# Altium integrated library Altium_WCAP-CSMH (rev22d).IntLib: 110 symbols (part 2 of 3)
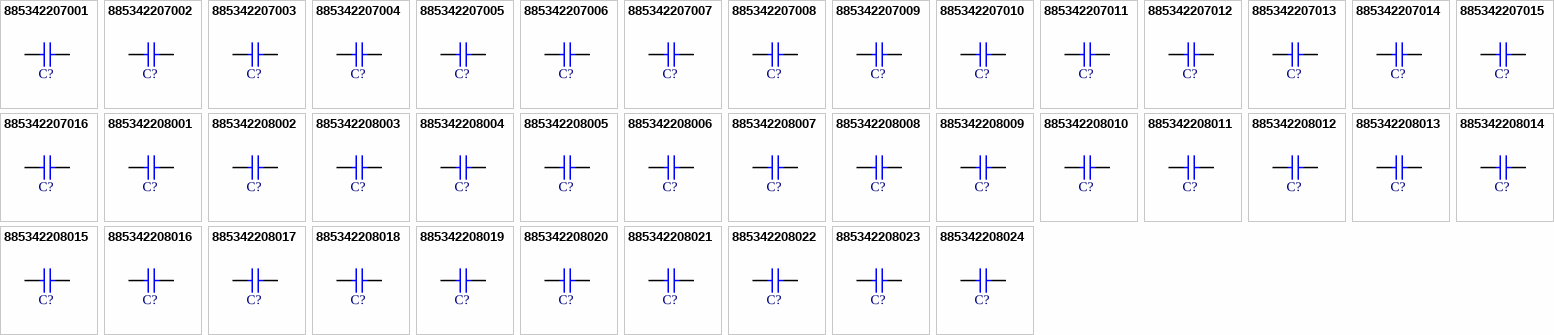
[diagram p3: symbols 885342207001 to 885342208024]

## 885342207008
designator C?, comment 1nF  (value not drawn)
WCAP-CSMH Multilayer Ceramic Chip Capacitor, Mid and High Voltage, size 0805, X7R Class II, 1nF, 250VDC; Manufacturer Part Number: 885342207008; Manufacturer: Wurth Elektronik; Case/Size Code: 0805; Capacitance Tolerance: 10%; Dissipation Factor: 2.5%; Insulation Resistance: 10GΩ; Rated Voltage (DC): 250V; Technical Reference: X7R0805102K250DFCT10000; Category: Multilayer Ceramic Chip Capacitors; Match Code: WCAP-CSMH; ComponentLink1Description: Website Link; ComponentLink1URL: https://www.we-online.com/redexpert/article/885342207008?ad; ComponentLink2Description: Datasheet Link; ComponentLink2URL: https://www.we-online.com/redexpert/spec/885342207008?ad; Mount: Surface Mount; Operating Temperature Max: 125°C; Operating Temperature Min: -55°C; Packaging: Tape and Reel; Length: 2mm; Width: 1.25mm; Height: 0.8mm; Capacitance: 1nF; Ceramic Type: X7R Class II
footprint WCAP-CSMH_0805_L2W1.25H0.8_Reflow
footprint WCAP-CSMH_0805_L2W1.25H0.8_Wave
simulation model 0805_885342207008_1nF
pins: 1, 2

## 885342207009
designator C?, comment 4.7nF  (value not drawn)
WCAP-CSMH Multilayer Ceramic Chip Capacitor, Mid and High Voltage, size 0805, X7R Class II, 4.7nF, 250VDC; Manufacturer Part Number: 885342207009; Manufacturer: Wurth Elektronik; Case/Size Code: 0805; Capacitance Tolerance: 10%; Dissipation Factor: 2.5%; Insulation Resistance: 10GΩ; Rated Voltage (DC): 250V; Technical Reference: X7R0805472K250DFCT10000; Category: Multilayer Ceramic Chip Capacitors; Match Code: WCAP-CSMH; ComponentLink1Description: Website Link; ComponentLink1URL: https://www.we-online.com/redexpert/article/885342207009?ad; ComponentLink2Description: Datasheet Link; ComponentLink2URL: https://www.we-online.com/redexpert/spec/885342207009?ad; Mount: Surface Mount; Operating Temperature Max: 125°C; Operating Temperature Min: -55°C; Packaging: Tape and Reel; Length: 2mm; Width: 1.25mm; Height: 0.8mm; Capacitance: 4.7nF; Ceramic Type: X7R Class II
footprint WCAP-CSMH_0805_L2W1.25H0.8_Reflow
footprint WCAP-CSMH_0805_L2W1.25H0.8_Wave
simulation model 0805_885342207009_4.7nF
pins: 1, 2

## 885342207010
designator C?, comment 10nF  (value not drawn)
WCAP-CSMH Multilayer Ceramic Chip Capacitor, Mid and High Voltage, size 0805, X7R Class II, 10nF, 250VDC; Manufacturer Part Number: 885342207010; Manufacturer: Wurth Elektronik; Case/Size Code: 0805; Capacitance Tolerance: 10%; Dissipation Factor: 2.5%; Insulation Resistance: 10GΩ; Rated Voltage (DC): 250V; Technical Reference: X7R0805103K250DFCT10000; Category: Multilayer Ceramic Chip Capacitors; Match Code: WCAP-CSMH; ComponentLink1Description: Website Link; ComponentLink1URL: https://www.we-online.com/redexpert/article/885342207010?ad; ComponentLink2Description: Datasheet Link; ComponentLink2URL: https://www.we-online.com/redexpert/spec/885342207010?ad; Mount: Surface Mount; Operating Temperature Max: 125°C; Operating Temperature Min: -55°C; Packaging: Tape and Reel; Length: 2mm; Width: 1.25mm; Height: 1.25mm; Capacitance: 10nF; Ceramic Type: X7R Class II
footprint WCAP-CSMH_0805_L2W1.25H1.25
simulation model 0805_885342207010_10nF
pins: 1, 2

## 885342207011
designator C?, comment 22nF  (value not drawn)
WCAP-CSMH Multilayer Ceramic Chip Capacitor, Mid and High Voltage, size 0805, X7R Class II, 22nF, 250VDC; Manufacturer Part Number: 885342207011; Manufacturer: Wurth Elektronik; Case/Size Code: 0805; Capacitance Tolerance: 10%; Dissipation Factor: 2.5%; Insulation Resistance: 4.545GΩ; Rated Voltage (DC): 250V; Technical Reference: X7R0805223K250DFCT10000; Category: Multilayer Ceramic Chip Capacitors; Match Code: WCAP-CSMH; ComponentLink1Description: Website Link; ComponentLink1URL: https://www.we-online.com/redexpert/article/885342207011?ad; ComponentLink2Description: Datasheet Link; ComponentLink2URL: https://www.we-online.com/redexpert/spec/885342207011?ad; Mount: Surface Mount; Operating Temperature Max: 125°C; Operating Temperature Min: -55°C; Packaging: Tape and Reel; Length: 2mm; Width: 1.25mm; Height: 1.25mm; Capacitance: 22nF; Ceramic Type: X7R Class II
footprint WCAP-CSMH_0805_L2W1.25H1.25
simulation model 0805_885342207011_22nF
pins: 1, 2

## 885342207012
designator C?, comment 470pF  (value not drawn)
WCAP-CSMH Multilayer Ceramic Chip Capacitor, Mid and High Voltage, size 0805, X7R Class II, 470pF, 500VDC; Manufacturer Part Number: 885342207012; Manufacturer: Wurth Elektronik; Case/Size Code: 0805; Capacitance Tolerance: 10%; Dissipation Factor: 2.5%; Insulation Resistance: 10GΩ; Rated Voltage (DC): 500V; Technical Reference: X7R0805471K500DFCT10000; Category: Multilayer Ceramic Chip Capacitors; Match Code: WCAP-CSMH; ComponentLink1Description: Website Link; ComponentLink1URL: https://www.we-online.com/redexpert/article/885342207012?ad; ComponentLink2Description: Datasheet Link; ComponentLink2URL: https://www.we-online.com/redexpert/spec/885342207012?ad; Mount: Surface Mount; Operating Temperature Max: 125°C; Operating Temperature Min: -55°C; Packaging: Tape and Reel; Length: 2mm; Width: 1.25mm; Height: 0.8mm; Capacitance: 470pF; Ceramic Type: X7R Class II
footprint WCAP-CSMH_0805_L2W1.25H0.8_Reflow
footprint WCAP-CSMH_0805_L2W1.25H0.8_Wave
simulation model 0805_885342207012_470pF
pins: 1, 2

## 885342207013
designator C?, comment 1nF  (value not drawn)
WCAP-CSMH Multilayer Ceramic Chip Capacitor, Mid and High Voltage, size 0805, X7R Class II, 1nF, 500VDC; Manufacturer Part Number: 885342207013; Manufacturer: Wurth Elektronik; Case/Size Code: 0805; Capacitance Tolerance: 10%; Dissipation Factor: 2.5%; Insulation Resistance: 10GΩ; Rated Voltage (DC): 500V; Technical Reference: X7R0805102K500DFCT10000; Category: Multilayer Ceramic Chip Capacitors; Match Code: WCAP-CSMH; ComponentLink1Description: Website Link; ComponentLink1URL: https://www.we-online.com/redexpert/article/885342207013?ad; ComponentLink2Description: Datasheet Link; ComponentLink2URL: https://www.we-online.com/redexpert/spec/885342207013?ad; Mount: Surface Mount; Operating Temperature Max: 125°C; Operating Temperature Min: -55°C; Packaging: Tape and Reel; Length: 2mm; Width: 1.25mm; Height: 0.8mm; Capacitance: 1nF; Ceramic Type: X7R Class II
footprint WCAP-CSMH_0805_L2W1.25H0.8_Reflow
footprint WCAP-CSMH_0805_L2W1.25H0.8_Wave
simulation model 0805_885342207013_1nF
pins: 1, 2

## 885342207014
designator C?, comment 10nF  (value not drawn)
WCAP-CSMH Multilayer Ceramic Chip Capacitor, Mid and High Voltage, size 0805, X7R Class II, 10nF, 500VDC; Manufacturer Part Number: 885342207014; Manufacturer: Wurth Elektronik; Case/Size Code: 0805; Capacitance Tolerance: 10%; Dissipation Factor: 2.5%; Insulation Resistance: 10GΩ; Rated Voltage (DC): 500V; Technical Reference: X7R0805103K500DFCT10000; Category: Multilayer Ceramic Chip Capacitors; Match Code: WCAP-CSMH; ComponentLink1Description: Website Link; ComponentLink1URL: https://www.we-online.com/redexpert/article/885342207014?ad; ComponentLink2Description: Datasheet Link; ComponentLink2URL: https://www.we-online.com/redexpert/spec/885342207014?ad; Mount: Surface Mount; Operating Temperature Max: 125°C; Operating Temperature Min: -55°C; Packaging: Tape and Reel; Length: 2mm; Width: 1.25mm; Height: 1.25mm; Capacitance: 10nF; Ceramic Type: X7R Class II
footprint WCAP-CSMH_0805_L2W1.25H1.25
simulation model 0805_885342207014_10nF
pins: 1, 2

## 885342207015
designator C?, comment 100pF  (value not drawn)
WCAP-CSMH Multilayer Ceramic Chip Capacitor, Mid and High Voltage, size 0805, X7R Class II, 100pF, 1000VDC; Manufacturer Part Number: 885342207015; Manufacturer: Wurth Elektronik; Case/Size Code: 0805; Capacitance Tolerance: 10%; Dissipation Factor: 2.5%; Insulation Resistance: 10GΩ; Rated Voltage (DC): 1000V; Technical Reference: X7R0805101KA00DFCT10000; Category: Multilayer Ceramic Chip Capacitors; Match Code: WCAP-CSMH; ComponentLink1Description: Website Link; ComponentLink1URL: https://www.we-online.com/redexpert/article/885342207015?ad; ComponentLink2Description: Datasheet Link; ComponentLink2URL: https://www.we-online.com/redexpert/spec/885342207015?ad; Mount: Surface Mount; Operating Temperature Max: 125°C; Operating Temperature Min: -55°C; Packaging: Tape and Reel; Length: 2mm; Width: 1.25mm; Height: 1.25mm; Capacitance: 100pF; Ceramic Type: X7R Class II
footprint WCAP-CSMH_0805_L2W1.25H1.25
simulation model 0805_885342207015_100pF
pins: 1, 2

## 885342207016
designator C?, comment 2.2nF  (value not drawn)
WCAP-CSMH Multilayer Ceramic Chip Capacitor, Mid and High Voltage, size 0805, X7R Class II, 2.2nF, 1000VDC; Manufacturer Part Number: 885342207016; Manufacturer: Wurth Elektronik; Case/Size Code: 0805; Capacitance Tolerance: 10%; Dissipation Factor: 2.5%; Insulation Resistance: 10GΩ; Rated Voltage (DC): 1000V; Technical Reference: X7R0805222KA00DFCT10000; Category: Multilayer Ceramic Chip Capacitors; Match Code: WCAP-CSMH; ComponentLink1Description: Website Link; ComponentLink1URL: https://www.we-online.com/redexpert/article/885342207016?ad; ComponentLink2Description: Datasheet Link; ComponentLink2URL: https://www.we-online.com/redexpert/spec/885342207016?ad; Mount: Surface Mount; Operating Temperature Max: 125°C; Operating Temperature Min: -55°C; Packaging: Tape and Reel; Length: 2mm; Width: 1.25mm; Height: 1.25mm; Capacitance: 2.2nF; Ceramic Type: X7R Class II
footprint WCAP-CSMH_0805_L2W1.25H1.25
simulation model 0805_885342207016_2.2nF
pins: 1, 2

## 885342208001
designator C?, comment 22nF  (value not drawn)
WCAP-CSMH Multilayer Ceramic Chip Capacitor, Mid and High Voltage, size 1206, X7R Class II, 22nF, 200VDC; Manufacturer Part Number: 885342208001; Manufacturer: Wurth Elektronik; Case/Size Code: 1206; Capacitance Tolerance: 10%; Dissipation Factor: 2.5%; Insulation Resistance: 4.545GΩ; Rated Voltage (DC): 200V; Technical Reference: X7R1206223K200DFCT10000; Category: Multilayer Ceramic Chip Capacitors; Match Code: WCAP-CSMH; ComponentLink1Description: Website Link; ComponentLink1URL: https://www.we-online.com/redexpert/article/885342208001?ad; ComponentLink2Description: Datasheet Link; ComponentLink2URL: https://www.we-online.com/redexpert/spec/885342208001?ad; Mount: Surface Mount; Operating Temperature Max: 125°C; Operating Temperature Min: -55°C; Packaging: Tape and Reel; Length: 3.2mm; Width: 1.6mm; Height: 1.25mm; Capacitance: 22nF; Ceramic Type: X7R Class II
footprint WCAP-CSMH_1206_L3.2W1.6H1.25
simulation model 1206_885342208001_22nF
pins: 1, 2

## 885342208002
designator C?, comment 100nF  (value not drawn)
WCAP-CSMH Multilayer Ceramic Chip Capacitor, Mid and High Voltage, size 1206, X7R Class II, 100nF, 200VDC; Manufacturer Part Number: 885342208002; Manufacturer: Wurth Elektronik; Case/Size Code: 1206; Capacitance Tolerance: 10%; Dissipation Factor: 2.5%; Insulation Resistance: 1GΩ; Rated Voltage (DC): 200V; Technical Reference: X7R1206104K200DFCT10000; Category: Multilayer Ceramic Chip Capacitors; Match Code: WCAP-CSMH; ComponentLink1Description: Website Link; ComponentLink1URL: https://www.we-online.com/redexpert/article/885342208002?ad; ComponentLink2Description: Datasheet Link; ComponentLink2URL: https://www.we-online.com/redexpert/spec/885342208002?ad; Mount: Surface Mount; Operating Temperature Max: 125°C; Operating Temperature Min: -55°C; Packaging: Tape and Reel; Length: 3.2mm; Width: 1.6mm; Height: 1.6mm; Capacitance: 100nF; Ceramic Type: X7R Class II
footprint WCAP-CSMH_1206_L3.2W1.6H1.6
simulation model 1206_885342208002_100nF
pins: 1, 2

## 885342208003
designator C?, comment 10nF  (value not drawn)
WCAP-CSMH Multilayer Ceramic Chip Capacitor, Mid and High Voltage, size 1206, X7R Class II, 10nF, 250VDC; Manufacturer Part Number: 885342208003; Manufacturer: Wurth Elektronik; Case/Size Code: 1206; Capacitance Tolerance: 10%; Dissipation Factor: 2.5%; Insulation Resistance: 10GΩ; Rated Voltage (DC): 250V; Technical Reference: X7R1206103K250DFCT10000; Category: Multilayer Ceramic Chip Capacitors; Match Code: WCAP-CSMH; ComponentLink1Description: Website Link; ComponentLink1URL: https://www.we-online.com/redexpert/article/885342208003?ad; ComponentLink2Description: Datasheet Link; ComponentLink2URL: https://www.we-online.com/redexpert/spec/885342208003?ad; Mount: Surface Mount; Operating Temperature Max: 125°C; Operating Temperature Min: -55°C; Packaging: Tape and Reel; Length: 3.2mm; Width: 1.6mm; Height: 1.25mm; Capacitance: 10nF; Ceramic Type: X7R Class II
footprint WCAP-CSMH_1206_L3.2W1.6H1.25
simulation model 1206_885342208003_10nF
pins: 1, 2

## 885342208004
designator C?, comment 100nF  (value not drawn)
WCAP-CSMH Multilayer Ceramic Chip Capacitor, Mid and High Voltage, size 1206, X7R Class II, 100nF, 250VDC; Manufacturer Part Number: 885342208004; Manufacturer: Wurth Elektronik; Case/Size Code: 1206; Capacitance Tolerance: 10%; Dissipation Factor: 2.5%; Insulation Resistance: 1GΩ; Rated Voltage (DC): 250V; Technical Reference: X7R1206104K250DFCT10000; Category: Multilayer Ceramic Chip Capacitors; Match Code: WCAP-CSMH; ComponentLink1Description: Website Link; ComponentLink1URL: https://www.we-online.com/redexpert/article/885342208004?ad; ComponentLink2Description: Datasheet Link; ComponentLink2URL: https://www.we-online.com/redexpert/spec/885342208004?ad; Mount: Surface Mount; Operating Temperature Max: 125°C; Operating Temperature Min: -55°C; Packaging: Tape and Reel; Length: 3.2mm; Width: 1.6mm; Height: 1.6mm; Capacitance: 100nF; Ceramic Type: X7R Class II
footprint WCAP-CSMH_1206_L3.2W1.6H1.6
simulation model 1206_885342208004_100nF
pins: 1, 2

## 885342208005
designator C?, comment 470pF  (value not drawn)
WCAP-CSMH Multilayer Ceramic Chip Capacitor, Mid and High Voltage, size 1206, X7R Class II, 470pF, 500VDC; Manufacturer Part Number: 885342208005; Manufacturer: Wurth Elektronik; Case/Size Code: 1206; Capacitance Tolerance: 10%; Dissipation Factor: 2.5%; Insulation Resistance: 10GΩ; Rated Voltage (DC): 500V; Technical Reference: X7R1206471K500DFCT10000; Category: Multilayer Ceramic Chip Capacitors; Match Code: WCAP-CSMH; ComponentLink1Description: Website Link; ComponentLink1URL: https://www.we-online.com/redexpert/article/885342208005?ad; ComponentLink2Description: Datasheet Link; ComponentLink2URL: https://www.we-online.com/redexpert/spec/885342208005?ad; Mount: Surface Mount; Operating Temperature Max: 125°C; Operating Temperature Min: -55°C; Packaging: Tape and Reel; Length: 3.2mm; Width: 1.6mm; Height: 1.25mm; Capacitance: 470pF; Ceramic Type: X7R Class II
footprint WCAP-CSMH_1206_L3.2W1.6H1.25
simulation model 1206_885342208005_470pF
pins: 1, 2

## 885342208006
designator C?, comment 1nF  (value not drawn)
WCAP-CSMH Multilayer Ceramic Chip Capacitor, Mid and High Voltage, size 1206, X7R Class II, 1nF, 500VDC; Manufacturer Part Number: 885342208006; Manufacturer: Wurth Elektronik; Case/Size Code: 1206; Capacitance Tolerance: 10%; Dissipation Factor: 2.5%; Insulation Resistance: 10GΩ; Rated Voltage (DC): 500V; Technical Reference: X7R1206102K500DFCT10000; Category: Multilayer Ceramic Chip Capacitors; Match Code: WCAP-CSMH; ComponentLink1Description: Website Link; ComponentLink1URL: https://www.we-online.com/redexpert/article/885342208006?ad; ComponentLink2Description: Datasheet Link; ComponentLink2URL: https://www.we-online.com/redexpert/spec/885342208006?ad; Mount: Surface Mount; Operating Temperature Max: 125°C; Operating Temperature Min: -55°C; Packaging: Tape and Reel; Length: 3.2mm; Width: 1.6mm; Height: 1.25mm; Capacitance: 1nF; Ceramic Type: X7R Class II
footprint WCAP-CSMH_1206_L3.2W1.6H1.25
simulation model 1206_885342208006_1nF
pins: 1, 2

## 885342208007
designator C?, comment 2.2nF  (value not drawn)
WCAP-CSMH Multilayer Ceramic Chip Capacitor, Mid and High Voltage, size 1206, X7R Class II, 2.2nF, 500VDC; Manufacturer Part Number: 885342208007; Manufacturer: Wurth Elektronik; Case/Size Code: 1206; Capacitance Tolerance: 10%; Dissipation Factor: 2.5%; Insulation Resistance: 10GΩ; Rated Voltage (DC): 500V; Technical Reference: X7R1206222K500DFCT10000; Category: Multilayer Ceramic Chip Capacitors; Match Code: WCAP-CSMH; ComponentLink1Description: Website Link; ComponentLink1URL: https://www.we-online.com/redexpert/article/885342208007?ad; ComponentLink2Description: Datasheet Link; ComponentLink2URL: https://www.we-online.com/redexpert/spec/885342208007?ad; Mount: Surface Mount; Operating Temperature Max: 125°C; Operating Temperature Min: -55°C; Packaging: Tape and Reel; Length: 3.2mm; Width: 1.6mm; Height: 1.25mm; Capacitance: 2.2nF; Ceramic Type: X7R Class II
footprint WCAP-CSMH_1206_L3.2W1.6H1.25
simulation model 1206_885342208007_2.2nF
pins: 1, 2

## 885342208008
designator C?, comment 4.7nF  (value not drawn)
WCAP-CSMH Multilayer Ceramic Chip Capacitor, Mid and High Voltage, size 1206, X7R Class II, 4.7nF, 500VDC; Manufacturer Part Number: 885342208008; Manufacturer: Wurth Elektronik; Case/Size Code: 1206; Capacitance Tolerance: 10%; Dissipation Factor: 2.5%; Insulation Resistance: 10GΩ; Rated Voltage (DC): 500V; Technical Reference: X7R1206472K500DFCT10000; Category: Multilayer Ceramic Chip Capacitors; Match Code: WCAP-CSMH; ComponentLink1Description: Website Link; ComponentLink1URL: https://www.we-online.com/redexpert/article/885342208008?ad; ComponentLink2Description: Datasheet Link; ComponentLink2URL: https://www.we-online.com/redexpert/spec/885342208008?ad; Mount: Surface Mount; Operating Temperature Max: 125°C; Operating Temperature Min: -55°C; Packaging: Tape and Reel; Length: 3.2mm; Width: 1.6mm; Height: 1.25mm; Capacitance: 4.7nF; Ceramic Type: X7R Class II
footprint WCAP-CSMH_1206_L3.2W1.6H1.25
simulation model 1206_885342208008_4.7nF
pins: 1, 2

## 885342208009
designator C?, comment 10nF  (value not drawn)
WCAP-CSMH Multilayer Ceramic Chip Capacitor, Mid and High Voltage, size 1206, X7R Class II, 10nF, 500VDC; Manufacturer Part Number: 885342208009; Manufacturer: Wurth Elektronik; Case/Size Code: 1206; Capacitance Tolerance: 10%; Dissipation Factor: 2.5%; Insulation Resistance: 10GΩ; Rated Voltage (DC): 500V; Technical Reference: X7R1206103K500DFCT10000; Category: Multilayer Ceramic Chip Capacitors; Match Code: WCAP-CSMH; ComponentLink1Description: Website Link; ComponentLink1URL: https://www.we-online.com/redexpert/article/885342208009?ad; ComponentLink2Description: Datasheet Link; ComponentLink2URL: https://www.we-online.com/redexpert/spec/885342208009?ad; Mount: Surface Mount; Operating Temperature Max: 125°C; Operating Temperature Min: -55°C; Packaging: Tape and Reel; Length: 3.2mm; Width: 1.6mm; Height: 1.25mm; Capacitance: 10nF; Ceramic Type: X7R Class II
footprint WCAP-CSMH_1206_L3.2W1.6H1.25
simulation model 1206_885342208009_10nF
pins: 1, 2

## 885342208010
designator C?, comment 22nF  (value not drawn)
WCAP-CSMH Multilayer Ceramic Chip Capacitor, Mid and High Voltage, size 1206, X7R Class II, 22nF, 500VDC; Manufacturer Part Number: 885342208010; Manufacturer: Wurth Elektronik; Case/Size Code: 1206; Capacitance Tolerance: 10%; Dissipation Factor: 2.5%; Insulation Resistance: 4.545GΩ; Rated Voltage (DC): 500V; Technical Reference: X7R1206223K500DFCT10000; Category: Multilayer Ceramic Chip Capacitors; Match Code: WCAP-CSMH; ComponentLink1Description: Website Link; ComponentLink1URL: https://www.we-online.com/redexpert/article/885342208010?ad; ComponentLink2Description: Datasheet Link; ComponentLink2URL: https://www.we-online.com/redexpert/spec/885342208010?ad; Mount: Surface Mount; Operating Temperature Max: 125°C; Operating Temperature Min: -55°C; Packaging: Tape and Reel; Length: 3.2mm; Width: 1.6mm; Height: 1.6mm; Capacitance: 22nF; Ceramic Type: X7R Class II
footprint WCAP-CSMH_1206_L3.2W1.6H1.6
simulation model 1206_885342208010_22nF
pins: 1, 2

## 885342208011
designator C?, comment 1nF  (value not drawn)
WCAP-CSMH Multilayer Ceramic Chip Capacitor, Mid and High Voltage, size 1206, X7R Class II, 1nF, 630VDC; Manufacturer Part Number: 885342208011; Manufacturer: Wurth Elektronik; Case/Size Code: 1206; Capacitance Tolerance: 10%; Dissipation Factor: 2.5%; Insulation Resistance: 10GΩ; Rated Voltage (DC): 630V; Technical Reference: X7R1206102K630DFCT10000; Category: Multilayer Ceramic Chip Capacitors; Match Code: WCAP-CSMH; ComponentLink1Description: Website Link; ComponentLink1URL: https://www.we-online.com/redexpert/article/885342208011?ad; ComponentLink2Description: Datasheet Link; ComponentLink2URL: https://www.we-online.com/redexpert/spec/885342208011?ad; Mount: Surface Mount; Operating Temperature Max: 125°C; Operating Temperature Min: -55°C; Packaging: Tape and Reel; Length: 3.2mm; Width: 1.6mm; Height: 1.25mm; Capacitance: 1nF; Ceramic Type: X7R Class II
footprint WCAP-CSMH_1206_L3.2W1.6H1.25
simulation model 1206_885342208011_1nF
pins: 1, 2

## 885342208012
designator C?, comment 10nF  (value not drawn)
WCAP-CSMH Multilayer Ceramic Chip Capacitor, Mid and High Voltage, size 1206, X7R Class II, 10nF, 630VDC; Manufacturer Part Number: 885342208012; Manufacturer: Wurth Elektronik; Case/Size Code: 1206; Capacitance Tolerance: 10%; Dissipation Factor: 2.5%; Insulation Resistance: 10GΩ; Rated Voltage (DC): 630V; Technical Reference: X7R1206103K630DFCT10000; Category: Multilayer Ceramic Chip Capacitors; Match Code: WCAP-CSMH; ComponentLink1Description: Website Link; ComponentLink1URL: https://www.we-online.com/redexpert/article/885342208012?ad; ComponentLink2Description: Datasheet Link; ComponentLink2URL: https://www.we-online.com/redexpert/spec/885342208012?ad; Mount: Surface Mount; Operating Temperature Max: 125°C; Operating Temperature Min: -55°C; Packaging: Tape and Reel; Length: 3.2mm; Width: 1.6mm; Height: 1.25mm; Capacitance: 10nF; Ceramic Type: X7R Class II
footprint WCAP-CSMH_1206_L3.2W1.6H1.25
simulation model 1206_885342208012_10nF
pins: 1, 2

## 885342208013
designator C?, comment 15nF  (value not drawn)
WCAP-CSMH Multilayer Ceramic Chip Capacitor, Mid and High Voltage, size 1206, X7R Class II, 15nF, 630VDC; Manufacturer Part Number: 885342208013; Manufacturer: Wurth Elektronik; Case/Size Code: 1206; Capacitance Tolerance: 10%; Dissipation Factor: 2.5%; Insulation Resistance: 6.667GΩ; Rated Voltage (DC): 630V; Technical Reference: X7R1206153K630DFCT10000; Category: Multilayer Ceramic Chip Capacitors; Match Code: WCAP-CSMH; ComponentLink1Description: Website Link; ComponentLink1URL: https://www.we-online.com/redexpert/article/885342208013?ad; ComponentLink2Description: Datasheet Link; ComponentLink2URL: https://www.we-online.com/redexpert/spec/885342208013?ad; Mount: Surface Mount; Operating Temperature Max: 125°C; Operating Temperature Min: -55°C; Packaging: Tape and Reel; Length: 3.2mm; Width: 1.6mm; Height: 1.25mm; Capacitance: 15nF; Ceramic Type: X7R Class II
footprint WCAP-CSMH_1206_L3.2W1.6H1.25
simulation model 1206_885342208013_15nF
pins: 1, 2

## 885342208014
designator C?, comment 22nF  (value not drawn)
WCAP-CSMH Multilayer Ceramic Chip Capacitor, Mid and High Voltage, size 1206, X7R Class II, 22nF, 630VDC; Manufacturer Part Number: 885342208014; Manufacturer: Wurth Elektronik; Case/Size Code: 1206; Capacitance Tolerance: 10%; Dissipation Factor: 2.5%; Insulation Resistance: 4.545GΩ; Rated Voltage (DC): 630V; Technical Reference: X7R1206223K630DFCT10000; Category: Multilayer Ceramic Chip Capacitors; Match Code: WCAP-CSMH; ComponentLink1Description: Website Link; ComponentLink1URL: https://www.we-online.com/redexpert/article/885342208014?ad; ComponentLink2Description: Datasheet Link; ComponentLink2URL: https://www.we-online.com/redexpert/spec/885342208014?ad; Mount: Surface Mount; Operating Temperature Max: 125°C; Operating Temperature Min: -55°C; Packaging: Tape and Reel; Length: 3.2mm; Width: 1.6mm; Height: 1.6mm; Capacitance: 22nF; Ceramic Type: X7R Class II
footprint WCAP-CSMH_1206_L3.2W1.6H1.6
simulation model 1206_885342208014_22nF
pins: 1, 2

## 885342208015
designator C?, comment 33nF  (value not drawn)
WCAP-CSMH Multilayer Ceramic Chip Capacitor, Mid and High Voltage, size 1206, X7R Class II, 33nF, 630VDC; Manufacturer Part Number: 885342208015; Manufacturer: Wurth Elektronik; Case/Size Code: 1206; Capacitance Tolerance: 10%; Dissipation Factor: 2.5%; Insulation Resistance: 3.03GΩ; Rated Voltage (DC): 630V; Technical Reference: X7R1206333K630DFCT10000; Category: Multilayer Ceramic Chip Capacitors; Match Code: WCAP-CSMH; ComponentLink1Description: Website Link; ComponentLink1URL: https://www.we-online.com/redexpert/article/885342208015?ad; ComponentLink2Description: Datasheet Link; ComponentLink2URL: https://www.we-online.com/redexpert/spec/885342208015?ad; Mount: Surface Mount; Operating Temperature Max: 125°C; Operating Temperature Min: -55°C; Packaging: Tape and Reel; Length: 3.2mm; Width: 1.6mm; Height: 1.6mm; Capacitance: 33nF; Ceramic Type: X7R Class II
footprint WCAP-CSMH_1206_L3.2W1.6H1.6
simulation model 1206_885342208015_33nF
pins: 1, 2

## 885342208016
designator C?, comment 150pF  (value not drawn)
WCAP-CSMH Multilayer Ceramic Chip Capacitor, Mid and High Voltage, size 1206, X7R Class II, 150pF, 1000VDC; Manufacturer Part Number: 885342208016; Manufacturer: Wurth Elektronik; Case/Size Code: 1206; Capacitance Tolerance: 10%; Dissipation Factor: 2.5%; Insulation Resistance: 10GΩ; Rated Voltage (DC): 1000V; Technical Reference: X7R1206151KA00DFCT10000; Category: Multilayer Ceramic Chip Capacitors; Match Code: WCAP-CSMH; ComponentLink1Description: Website Link; ComponentLink1URL: https://www.we-online.com/redexpert/article/885342208016?ad; ComponentLink2Description: Datasheet Link; ComponentLink2URL: https://www.we-online.com/redexpert/spec/885342208016?ad; Mount: Surface Mount; Operating Temperature Max: 125°C; Operating Temperature Min: -55°C; Packaging: Tape and Reel; Length: 3.2mm; Width: 1.6mm; Height: 1.25mm; Capacitance: 150pF; Ceramic Type: X7R Class II
footprint WCAP-CSMH_1206_L3.2W1.6H1.25
simulation model 1206_885342208016_150pF
pins: 1, 2

## 885342208017
designator C?, comment 470pF  (value not drawn)
WCAP-CSMH Multilayer Ceramic Chip Capacitor, Mid and High Voltage, size 1206, X7R Class II, 470pF, 1000VDC; Manufacturer Part Number: 885342208017; Manufacturer: Wurth Elektronik; Case/Size Code: 1206; Capacitance Tolerance: 10%; Dissipation Factor: 2.5%; Insulation Resistance: 10GΩ; Rated Voltage (DC): 1000V; Technical Reference: X7R1206471KA00DFCT10000; Category: Multilayer Ceramic Chip Capacitors; Match Code: WCAP-CSMH; ComponentLink1Description: Website Link; ComponentLink1URL: https://www.we-online.com/redexpert/article/885342208017?ad; ComponentLink2Description: Datasheet Link; ComponentLink2URL: https://www.we-online.com/redexpert/spec/885342208017?ad; Mount: Surface Mount; Operating Temperature Max: 125°C; Operating Temperature Min: -55°C; Packaging: Tape and Reel; Length: 3.2mm; Width: 1.6mm; Height: 1.25mm; Capacitance: 470pF; Ceramic Type: X7R Class II
footprint WCAP-CSMH_1206_L3.2W1.6H1.25
simulation model 1206_885342208017_470pF
pins: 1, 2

## 885342208018
designator C?, comment 1nF  (value not drawn)
WCAP-CSMH Multilayer Ceramic Chip Capacitor, Mid and High Voltage, size 1206, X7R Class II, 1nF, 1000VDC; Manufacturer Part Number: 885342208018; Manufacturer: Wurth Elektronik; Case/Size Code: 1206; Capacitance Tolerance: 10%; Dissipation Factor: 2.5%; Insulation Resistance: 10GΩ; Rated Voltage (DC): 1000V; Technical Reference: X7R1206102KA00DFCT10000; Category: Multilayer Ceramic Chip Capacitors; Match Code: WCAP-CSMH; ComponentLink1Description: Website Link; ComponentLink1URL: https://www.we-online.com/redexpert/article/885342208018?ad; ComponentLink2Description: Datasheet Link; ComponentLink2URL: https://www.we-online.com/redexpert/spec/885342208018?ad; Mount: Surface Mount; Operating Temperature Max: 125°C; Operating Temperature Min: -55°C; Packaging: Tape and Reel; Length: 3.2mm; Width: 1.6mm; Height: 1.25mm; Capacitance: 1nF; Ceramic Type: X7R Class II
footprint WCAP-CSMH_1206_L3.2W1.6H1.25
simulation model 1206_885342208018_1nF
pins: 1, 2

## 885342208019
designator C?, comment 2.2nF  (value not drawn)
WCAP-CSMH Multilayer Ceramic Chip Capacitor, Mid and High Voltage, size 1206, X7R Class II, 2.2nF, 1000VDC; Manufacturer Part Number: 885342208019; Manufacturer: Wurth Elektronik; Case/Size Code: 1206; Capacitance Tolerance: 10%; Dissipation Factor: 2.5%; Insulation Resistance: 10GΩ; Rated Voltage (DC): 1000V; Technical Reference: X7R1206222KA00DFCT10000; Category: Multilayer Ceramic Chip Capacitors; Match Code: WCAP-CSMH; ComponentLink1Description: Website Link; ComponentLink1URL: https://www.we-online.com/redexpert/article/885342208019?ad; ComponentLink2Description: Datasheet Link; ComponentLink2URL: https://www.we-online.com/redexpert/spec/885342208019?ad; Mount: Surface Mount; Operating Temperature Max: 125°C; Operating Temperature Min: -55°C; Packaging: Tape and Reel; Length: 3.2mm; Width: 1.6mm; Height: 1.25mm; Capacitance: 2.2nF; Ceramic Type: X7R Class II
footprint WCAP-CSMH_1206_L3.2W1.6H1.25
simulation model 1206_885342208019_2.2nF
pins: 1, 2

## 885342208020
designator C?, comment 4.7nF  (value not drawn)
WCAP-CSMH Multilayer Ceramic Chip Capacitor, Mid and High Voltage, size 1206, X7R Class II, 4.7nF, 1000VDC; Manufacturer Part Number: 885342208020; Manufacturer: Wurth Elektronik; Case/Size Code: 1206; Capacitance Tolerance: 10%; Dissipation Factor: 2.5%; Insulation Resistance: 10GΩ; Rated Voltage (DC): 1000V; Technical Reference: X7R1206472KA00DFCT10000; Category: Multilayer Ceramic Chip Capacitors; Match Code: WCAP-CSMH; ComponentLink1Description: Website Link; ComponentLink1URL: https://www.we-online.com/redexpert/article/885342208020?ad; ComponentLink2Description: Datasheet Link; ComponentLink2URL: https://www.we-online.com/redexpert/spec/885342208020?ad; Mount: Surface Mount; Operating Temperature Max: 125°C; Operating Temperature Min: -55°C; Packaging: Tape and Reel; Length: 3.2mm; Width: 1.6mm; Height: 1.25mm; Capacitance: 4.7nF; Ceramic Type: X7R Class II
footprint WCAP-CSMH_1206_L3.2W1.6H1.25
simulation model 1206_885342208020_4.7nF
pins: 1, 2

## 885342208021
designator C?, comment 10nF  (value not drawn)
WCAP-CSMH Multilayer Ceramic Chip Capacitor, Mid and High Voltage, size 1206, X7R Class II, 10nF, 1000VDC; Manufacturer Part Number: 885342208021; Manufacturer: Wurth Elektronik; Case/Size Code: 1206; Capacitance Tolerance: 10%; Dissipation Factor: 2.5%; Insulation Resistance: 10GΩ; Rated Voltage (DC): 1000V; Technical Reference: X7R1206103KA00DFCT10000; Category: Multilayer Ceramic Chip Capacitors; Match Code: WCAP-CSMH; ComponentLink1Description: Website Link; ComponentLink1URL: https://www.we-online.com/redexpert/article/885342208021?ad; ComponentLink2Description: Datasheet Link; ComponentLink2URL: https://www.we-online.com/redexpert/spec/885342208021?ad; Mount: Surface Mount; Operating Temperature Max: 125°C; Operating Temperature Min: -55°C; Packaging: Tape and Reel; Length: 3.2mm; Width: 1.6mm; Height: 1.25mm; Capacitance: 10nF; Ceramic Type: X7R Class II
footprint WCAP-CSMH_1206_L3.2W1.6H1.25
simulation model 1206_885342208021_10nF
pins: 1, 2

## 885342208022
designator C?, comment 100pF  (value not drawn)
WCAP-CSMH Multilayer Ceramic Chip Capacitor, Mid and High Voltage, size 1206, X7R Class II, 100pF, 2000VDC; Manufacturer Part Number: 885342208022; Manufacturer: Wurth Elektronik; Case/Size Code: 1206; Capacitance Tolerance: 10%; Dissipation Factor: 2.5%; Insulation Resistance: 10GΩ; Rated Voltage (DC): 2000V; Technical Reference: X7R1206101KB00DFCT10000; Category: Multilayer Ceramic Chip Capacitors; Match Code: WCAP-CSMH; ComponentLink1Description: Website Link; ComponentLink1URL: https://www.we-online.com/redexpert/article/885342208022?ad; ComponentLink2Description: Datasheet Link; ComponentLink2URL: https://www.we-online.com/redexpert/spec/885342208022?ad; Mount: Surface Mount; Operating Temperature Max: 125°C; Operating Temperature Min: -55°C; Packaging: Tape and Reel; Length: 3.2mm; Width: 1.6mm; Height: 1.25mm; Capacitance: 100pF; Ceramic Type: X7R Class II
footprint WCAP-CSMH_1206_L3.2W1.6H1.25
simulation model 1206_885342208022_100pF
pins: 1, 2

## 885342208023
designator C?, comment 470pF  (value not drawn)
WCAP-CSMH Multilayer Ceramic Chip Capacitor, Mid and High Voltage, size 1206, X7R Class II, 470pF, 2000VDC; Manufacturer Part Number: 885342208023; Manufacturer: Wurth Elektronik; Case/Size Code: 1206; Capacitance Tolerance: 10%; Dissipation Factor: 2.5%; Insulation Resistance: 10GΩ; Rated Voltage (DC): 2000V; Technical Reference: X7R1206471KB00DFCT10000; Category: Multilayer Ceramic Chip Capacitors; Match Code: WCAP-CSMH; ComponentLink1Description: Website Link; ComponentLink1URL: https://www.we-online.com/redexpert/article/885342208023?ad; ComponentLink2Description: Datasheet Link; ComponentLink2URL: https://www.we-online.com/redexpert/spec/885342208023?ad; Mount: Surface Mount; Operating Temperature Max: 125°C; Operating Temperature Min: -55°C; Packaging: Tape and Reel; Length: 3.2mm; Width: 1.6mm; Height: 1.25mm; Capacitance: 470pF; Ceramic Type: X7R Class II
footprint WCAP-CSMH_1206_L3.2W1.6H1.25
simulation model 1206_885342208023_470pF
pins: 1, 2

## 885342208024
designator C?, comment 1nF  (value not drawn)
WCAP-CSMH Multilayer Ceramic Chip Capacitor, Mid and High Voltage, size 1206, X7R Class II, 1nF, 2000VDC; Manufacturer Part Number: 885342208024; Manufacturer: Wurth Elektronik; Case/Size Code: 1206; Capacitance Tolerance: 10%; Dissipation Factor: 2.5%; Insulation Resistance: 10GΩ; Rated Voltage (DC): 2000V; Technical Reference: X7R1206102KB00DFCT10000; Category: Multilayer Ceramic Chip Capacitors; Match Code: WCAP-CSMH; ComponentLink1Description: Website Link; ComponentLink1URL: https://www.we-online.com/redexpert/article/885342208024?ad; ComponentLink2Description: Datasheet Link; ComponentLink2URL: https://www.we-online.com/redexpert/spec/885342208024?ad; Mount: Surface Mount; Operating Temperature Max: 125°C; Operating Temperature Min: -55°C; Packaging: Tape and Reel; Length: 3.2mm; Width: 1.6mm; Height: 1.6mm; Capacitance: 1nF; Ceramic Type: X7R Class II
footprint WCAP-CSMH_1206_L3.2W1.6H1.6
simulation model 1206_885342208024_1nF
pins: 1, 2

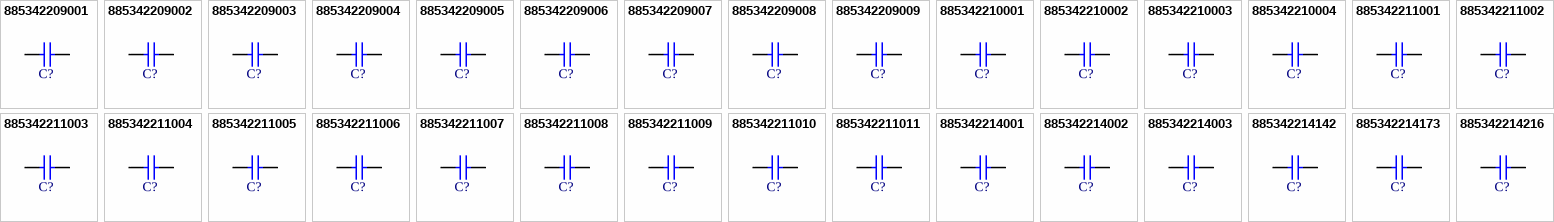
[diagram p2: symbols 885342209001 to 885342214216]

## 885342209001
designator C?, comment 15nF  (value not drawn)
WCAP-CSMH Multilayer Ceramic Chip Capacitor, Mid and High Voltage, size 1210, X7R Class II, 15nF, 200VDC; Manufacturer Part Number: 885342209001; Manufacturer: Wurth Elektronik; Case/Size Code: 1210; Capacitance Tolerance: 10%; Dissipation Factor: 2.5%; Insulation Resistance: 6.667GΩ; Rated Voltage (DC): 200V; Technical Reference: X7R1210153K200DFCT10000; Category: Multilayer Ceramic Chip Capacitors; Match Code: WCAP-CSMH; ComponentLink1Description: Website Link; ComponentLink1URL: https://www.we-online.com/redexpert/article/885342209001?ad; ComponentLink2Description: Datasheet Link; ComponentLink2URL: https://www.we-online.com/redexpert/spec/885342209001?ad; Mount: Surface Mount; Operating Temperature Max: 125°C; Operating Temperature Min: -55°C; Packaging: Tape and Reel; Length: 3.2mm; Width: 2.5mm; Height: 0.95mm; Capacitance: 15nF; Ceramic Type: X7R Class II
footprint WCAP-CSMH_1210_L3.2W2.5H0.95
simulation model 1210_885342209001_15nF
pins: 1, 2

## 885342209002
designator C?, comment 100nF  (value not drawn)
WCAP-CSMH Multilayer Ceramic Chip Capacitor, Mid and High Voltage, size 1210, X7R Class II, 100nF, 200VDC; Manufacturer Part Number: 885342209002; Manufacturer: Wurth Elektronik; Case/Size Code: 1210; Capacitance Tolerance: 10%; Dissipation Factor: 2.5%; Insulation Resistance: 1GΩ; Rated Voltage (DC): 200V; Technical Reference: X7R1210104K200DFCT10000; Category: Multilayer Ceramic Chip Capacitors; Match Code: WCAP-CSMH; ComponentLink1Description: Website Link; ComponentLink1URL: https://www.we-online.com/redexpert/article/885342209002?ad; ComponentLink2Description: Datasheet Link; ComponentLink2URL: https://www.we-online.com/redexpert/spec/885342209002?ad; Mount: Surface Mount; Operating Temperature Max: 125°C; Operating Temperature Min: -55°C; Packaging: Tape and Reel; Length: 3.2mm; Width: 2.5mm; Height: 1.6mm; Capacitance: 100nF; Ceramic Type: X7R Class II
footprint WCAP-CSMH_1210_L3.2W2.5H1.6
simulation model 1210_885342209002_100nF
pins: 1, 2

## 885342209003
designator C?, comment 220nF  (value not drawn)
WCAP-CSMH Multilayer Ceramic Chip Capacitor, Mid and High Voltage, size 1210, X7R Class II, 220nF, 250VDC; Manufacturer Part Number: 885342209003; Manufacturer: Wurth Elektronik; Case/Size Code: 1210; Capacitance Tolerance: 10%; Dissipation Factor: 2.5%; Insulation Resistance: 0.455GΩ; Rated Voltage (DC): 250V; Technical Reference: X7R1210224K250DFCT10000; Category: Multilayer Ceramic Chip Capacitors; Match Code: WCAP-CSMH; ComponentLink1Description: Website Link; ComponentLink1URL: https://www.we-online.com/redexpert/article/885342209003?ad; ComponentLink2Description: Datasheet Link; ComponentLink2URL: https://www.we-online.com/redexpert/spec/885342209003?ad; Mount: Surface Mount; Operating Temperature Max: 125°C; Operating Temperature Min: -55°C; Packaging: Tape and Reel; Length: 3.2mm; Width: 2.5mm; Height: 2.5mm; Capacitance: 220nF; Ceramic Type: X7R Class II
footprint WCAP-CSMH_1210_L3.2W2.5H2.5
simulation model 1210_885342209003_220nF
pins: 1, 2

## 885342209004
designator C?, comment 33nF  (value not drawn)
WCAP-CSMH Multilayer Ceramic Chip Capacitor, Mid and High Voltage, size 1210, X7R Class II, 33nF, 630VDC; Manufacturer Part Number: 885342209004; Manufacturer: Wurth Elektronik; Case/Size Code: 1210; Capacitance Tolerance: 10%; Dissipation Factor: 2.5%; Insulation Resistance: 3.03GΩ; Rated Voltage (DC): 630V; Technical Reference: X7R1210333K630DFCT10000; Category: Multilayer Ceramic Chip Capacitors; Match Code: WCAP-CSMH; ComponentLink1Description: Website Link; ComponentLink1URL: https://www.we-online.com/redexpert/article/885342209004?ad; ComponentLink2Description: Datasheet Link; ComponentLink2URL: https://www.we-online.com/redexpert/spec/885342209004?ad; Mount: Surface Mount; Operating Temperature Max: 125°C; Operating Temperature Min: -55°C; Packaging: Tape and Reel; Length: 3.2mm; Width: 2.5mm; Height: 1.6mm; Capacitance: 33nF; Ceramic Type: X7R Class II
footprint WCAP-CSMH_1210_L3.2W2.5H1.6
simulation model 1210_885342209004_33nF
pins: 1, 2

## 885342209005
designator C?, comment 68nF  (value not drawn)
WCAP-CSMH Multilayer Ceramic Chip Capacitor, Mid and High Voltage, size 1210, X7R Class II, 68nF, 630VDC; Manufacturer Part Number: 885342209005; Manufacturer: Wurth Elektronik; Case/Size Code: 1210; Capacitance Tolerance: 10%; Dissipation Factor: 2.5%; Insulation Resistance: 1.471GΩ; Rated Voltage (DC): 630V; Technical Reference: X7R1210683K630DFCT10000; Category: Multilayer Ceramic Chip Capacitors; Match Code: WCAP-CSMH; ComponentLink1Description: Website Link; ComponentLink1URL: https://www.we-online.com/redexpert/article/885342209005?ad; ComponentLink2Description: Datasheet Link; ComponentLink2URL: https://www.we-online.com/redexpert/spec/885342209005?ad; Mount: Surface Mount; Operating Temperature Max: 125°C; Operating Temperature Min: -55°C; Packaging: Tape and Reel; Length: 3.2mm; Width: 2.5mm; Height: 2mm; Capacitance: 68nF; Ceramic Type: X7R Class II
footprint WCAP-CSMH_1210_L3.2W2.5H2
simulation model 1210_885342209005_68nF
pins: 1, 2

## 885342209006
designator C?, comment 1nF  (value not drawn)
WCAP-CSMH Multilayer Ceramic Chip Capacitor, Mid and High Voltage, size 1210, X7R Class II, 1nF, 1000VDC; Manufacturer Part Number: 885342209006; Manufacturer: Wurth Elektronik; Case/Size Code: 1210; Capacitance Tolerance: 10%; Dissipation Factor: 2.5%; Insulation Resistance: 10GΩ; Rated Voltage (DC): 1000V; Technical Reference: X7R1210102KA00DFCT10000; Category: Multilayer Ceramic Chip Capacitors; Match Code: WCAP-CSMH; ComponentLink1Description: Website Link; ComponentLink1URL: https://www.we-online.com/redexpert/article/885342209006?ad; ComponentLink2Description: Datasheet Link; ComponentLink2URL: https://www.we-online.com/redexpert/spec/885342209006?ad; Mount: Surface Mount; Operating Temperature Max: 125°C; Operating Temperature Min: -55°C; Packaging: Tape and Reel; Length: 3.2mm; Width: 2.5mm; Height: 1.25mm; Capacitance: 1nF; Ceramic Type: X7R Class II
footprint WCAP-CSMH_1210_L3.2W2.5H1.25
simulation model 1210_885342209006_1nF
pins: 1, 2

## 885342209007
designator C?, comment 22nF  (value not drawn)
WCAP-CSMH Multilayer Ceramic Chip Capacitor, Mid and High Voltage, size 1210, X7R Class II, 22nF, 1000VDC; Manufacturer Part Number: 885342209007; Manufacturer: Wurth Elektronik; Case/Size Code: 1210; Capacitance Tolerance: 10%; Dissipation Factor: 2.5%; Insulation Resistance: 4.55GΩ; Rated Voltage (DC): 1000V; Technical Reference: X7R1210223KA00DFCT10000; Category: Multilayer Ceramic Chip Capacitors; Match Code: WCAP-CSMH; ComponentLink1Description: Website Link; ComponentLink1URL: https://www.we-online.com/redexpert/article/885342209007?ad; ComponentLink2Description: Datasheet Link; ComponentLink2URL: https://www.we-online.com/redexpert/spec/885342209007?ad; Mount: Surface Mount; Operating Temperature Max: 125°C; Operating Temperature Min: -55°C; Packaging: Tape and Reel; Length: 3.2mm; Width: 2.5mm; Height: 1.6mm; Capacitance: 22nF; Ceramic Type: X7R Class II
footprint WCAP-CSMH_1210_L3.2W2.5H1.6
simulation model 1210_885342209007_22nF
pins: 1, 2

## 885342209008
designator C?, comment 220pF  (value not drawn)
WCAP-CSMH Multilayer Ceramic Chip Capacitor, Mid and High Voltage, size 1210, X7R Class II, 220pF, 2000VDC; Manufacturer Part Number: 885342209008; Manufacturer: Wurth Elektronik; Case/Size Code: 1210; Capacitance Tolerance: 10%; Dissipation Factor: 2.5%; Insulation Resistance: 10GΩ; Rated Voltage (DC): 2000V; Technical Reference: X7R1210221KB00DFCT10000; Category: Multilayer Ceramic Chip Capacitors; Match Code: WCAP-CSMH; ComponentLink1Description: Website Link; ComponentLink1URL: https://www.we-online.com/redexpert/article/885342209008?ad; ComponentLink2Description: Datasheet Link; ComponentLink2URL: https://www.we-online.com/redexpert/spec/885342209008?ad; Mount: Surface Mount; Operating Temperature Max: 125°C; Operating Temperature Min: -55°C; Packaging: Tape and Reel; Length: 3.2mm; Width: 2.5mm; Height: 1.25mm; Capacitance: 220pF; Ceramic Type: X7R Class II
footprint WCAP-CSMH_1210_L3.2W2.5H1.25
simulation model 1210_885342209008_220pF
pins: 1, 2

## 885342209009
designator C?, comment 1nF  (value not drawn)
WCAP-CSMH Multilayer Ceramic Chip Capacitor, Mid and High Voltage, size 1210, X7R Class II, 1nF, 2000VDC; Manufacturer Part Number: 885342209009; Manufacturer: Wurth Elektronik; Case/Size Code: 1210; Capacitance Tolerance: 10%; Dissipation Factor: 2.5%; Insulation Resistance: 10GΩ; Rated Voltage (DC): 2000V; Technical Reference: X7R1210102KB00DFCT10000; Category: Multilayer Ceramic Chip Capacitors; Match Code: WCAP-CSMH; ComponentLink1Description: Website Link; ComponentLink1URL: https://www.we-online.com/redexpert/article/885342209009?ad; ComponentLink2Description: Datasheet Link; ComponentLink2URL: https://www.we-online.com/redexpert/spec/885342209009?ad; Mount: Surface Mount; Operating Temperature Max: 125°C; Operating Temperature Min: -55°C; Packaging: Tape and Reel; Length: 3.2mm; Width: 2.5mm; Height: 1.25mm; Capacitance: 1nF; Ceramic Type: X7R Class II
footprint WCAP-CSMH_1210_L3.2W2.5H1.25
simulation model 1210_885342209009_1nF
pins: 1, 2

## 885342210001
designator C?, comment 1nF  (value not drawn)
WCAP-CSMH Multilayer Ceramic Chip Capacitor, Mid and High Voltage, size 1808, X7R Class II, 1nF, 2000VDC; Manufacturer Part Number: 885342210001; Manufacturer: Wurth Elektronik; Case/Size Code: 1808; Capacitance Tolerance: 10%; Dissipation Factor: 2.5%; Insulation Resistance: 10GΩ; Rated Voltage (DC): 2000V; Technical Reference: X7R1808102KB00DFCT10000; Category: Multilayer Ceramic Chip Capacitors; Match Code: WCAP-CSMH; ComponentLink1Description: Website Link; ComponentLink1URL: https://www.we-online.com/redexpert/article/885342210001?ad; ComponentLink2Description: Datasheet Link; ComponentLink2URL: https://www.we-online.com/redexpert/spec/885342210001?ad; Mount: Surface Mount; Operating Temperature Max: 125°C; Operating Temperature Min: -55°C; Packaging: Tape and Reel; Length: 4.5mm; Width: 2.03mm; Height: 1.25mm; Capacitance: 1nF; Ceramic Type: X7R Class II
footprint WCAP-CSMH_1808_L4.5W2.03H1.25
simulation model 1808_885342210001_1nF
pins: 1, 2

## 885342210002
designator C?, comment 2.2nF  (value not drawn)
WCAP-CSMH Multilayer Ceramic Chip Capacitor, Mid and High Voltage, size 1808, X7R Class II, 2.2nF, 2000VDC; Manufacturer Part Number: 885342210002; Manufacturer: Wurth Elektronik; Case/Size Code: 1808; Capacitance Tolerance: 10%; Dissipation Factor: 2.5%; Insulation Resistance: 10GΩ; Rated Voltage (DC): 2000V; Technical Reference: X7R1808222KB00DFCT10000; Category: Multilayer Ceramic Chip Capacitors; Match Code: WCAP-CSMH; ComponentLink1Description: Website Link; ComponentLink1URL: https://www.we-online.com/redexpert/article/885342210002?ad; ComponentLink2Description: Datasheet Link; ComponentLink2URL: https://www.we-online.com/redexpert/spec/885342210002?ad; Mount: Surface Mount; Operating Temperature Max: 125°C; Operating Temperature Min: -55°C; Packaging: Tape and Reel; Length: 4.5mm; Width: 2.03mm; Height: 2mm; Capacitance: 2.2nF; Ceramic Type: X7R Class II
footprint WCAP-CSMH_1808_L4.5W2.03H2
simulation model 1808_885342210002_2.2nF
pins: 1, 2

## 885342210003
designator C?, comment 470pF  (value not drawn)
WCAP-CSMH Multilayer Ceramic Chip Capacitor, Mid and High Voltage, size 1808, X7R Class II, 470pF, 3000VDC; Manufacturer Part Number: 885342210003; Manufacturer: Wurth Elektronik; Case/Size Code: 1808; Capacitance Tolerance: 10%; Dissipation Factor: 2.5%; Insulation Resistance: 10GΩ; Rated Voltage (DC): 3000V; Technical Reference: X7R1808471KC00DFCT10000; Category: Multilayer Ceramic Chip Capacitors; Match Code: WCAP-CSMH; ComponentLink1Description: Website Link; ComponentLink1URL: https://www.we-online.com/redexpert/article/885342210003?ad; ComponentLink2Description: Datasheet Link; ComponentLink2URL: https://www.we-online.com/redexpert/spec/885342210003?ad; Mount: Surface Mount; Operating Temperature Max: 125°C; Operating Temperature Min: -55°C; Packaging: Tape and Reel; Length: 4.5mm; Width: 2.03mm; Height: 2mm; Capacitance: 470pF; Ceramic Type: X7R Class II
footprint WCAP-CSMH_1808_L4.5W2.03H2
simulation model 1808_885342210003_470pF
pins: 1, 2

## 885342210004
designator C?, comment 1nF  (value not drawn)
WCAP-CSMH Multilayer Ceramic Chip Capacitor, Mid and High Voltage, size 1808, X7R Class II, 1nF, 3000VDC; Manufacturer Part Number: 885342210004; Manufacturer: Wurth Elektronik; Case/Size Code: 1808; Capacitance Tolerance: 10%; Dissipation Factor: 2.5%; Insulation Resistance: 10GΩ; Rated Voltage (DC): 3000V; Technical Reference: X7R1808102KC00DFCT10000; Category: Multilayer Ceramic Chip Capacitors; Match Code: WCAP-CSMH; ComponentLink1Description: Website Link; ComponentLink1URL: https://www.we-online.com/redexpert/article/885342210004?ad; ComponentLink2Description: Datasheet Link; ComponentLink2URL: https://www.we-online.com/redexpert/spec/885342210004?ad; Mount: Surface Mount; Operating Temperature Max: 125°C; Operating Temperature Min: -55°C; Packaging: Tape and Reel; Length: 4.5mm; Width: 2.03mm; Height: 2mm; Capacitance: 1nF; Ceramic Type: X7R Class II
footprint WCAP-CSMH_1808_L4.5W2.03H2
simulation model 1808_885342210004_1nF
pins: 1, 2

## 885342211001
designator C?, comment 4.7nF  (value not drawn)
WCAP-CSMH Multilayer Ceramic Chip Capacitor, Mid and High Voltage, size 1812, X7R Class II, 4.7nF, 200VDC; Manufacturer Part Number: 885342211001; Manufacturer: Wurth Elektronik; Case/Size Code: 1812; Capacitance Tolerance: 10%; Dissipation Factor: 2.5%; Insulation Resistance: 10GΩ; Rated Voltage (DC): 200V; Technical Reference: X7R1812472K200DFCT10000; Category: Multilayer Ceramic Chip Capacitors; Match Code: WCAP-CSMH; ComponentLink1Description: Website Link; ComponentLink1URL: https://www.we-online.com/redexpert/article/885342211001?ad; ComponentLink2Description: Datasheet Link; ComponentLink2URL: https://www.we-online.com/redexpert/spec/885342211001?ad; Mount: Surface Mount; Operating Temperature Max: 125°C; Operating Temperature Min: -55°C; Packaging: Tape and Reel; Length: 4.5mm; Width: 3.2mm; Height: 1.25mm; Capacitance: 4.7nF; Ceramic Type: X7R Class II
footprint WCAP-CSMH_1812_L4.5W3.2H1.25
simulation model 1812_885342211001_4.7nF
pins: 1, 2

## 885342211002
designator C?, comment 100nF  (value not drawn)
WCAP-CSMH Multilayer Ceramic Chip Capacitor, Mid and High Voltage, size 1812, X7R Class II, 100nF, 200VDC; Manufacturer Part Number: 885342211002; Manufacturer: Wurth Elektronik; Case/Size Code: 1812; Capacitance Tolerance: 10%; Dissipation Factor: 2.5%; Insulation Resistance: 1GΩ; Rated Voltage (DC): 200V; Technical Reference: X7R1812104K200DFCT10000; Category: Multilayer Ceramic Chip Capacitors; Match Code: WCAP-CSMH; ComponentLink1Description: Website Link; ComponentLink1URL: https://www.we-online.com/redexpert/article/885342211002?ad; ComponentLink2Description: Datasheet Link; ComponentLink2URL: https://www.we-online.com/redexpert/spec/885342211002?ad; Mount: Surface Mount; Operating Temperature Max: 125°C; Operating Temperature Min: -55°C; Packaging: Tape and Reel; Length: 4.5mm; Width: 3.2mm; Height: 1.25mm; Capacitance: 100nF; Ceramic Type: X7R Class II
footprint WCAP-CSMH_1812_L4.5W3.2H1.25
simulation model 1812_885342211002_100nF
pins: 1, 2